# Altium schematic symbol library 68714014522.SchLib: 1 symbol
Pins are listed as number, name and electrical type; pins without a type are passive.

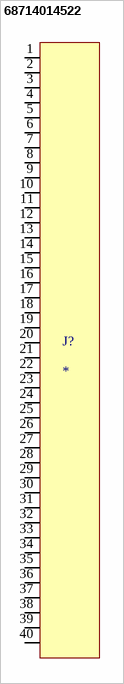
[diagram p0: symbol 68714014522]

## 68714014522
designator J?
40 Position FPC Connector Contacts, Bottom 0.020 (0.50mm) Surface Mount, Right Angle; MP: 68714014522; MF: WÃ¼rth Elektronik; Purchase-URL: https://pricing.snapeda.com/search/part/68714014522/?ref=eda; Price: None; SnapEDA_Link: https://www.snapeda.com/parts/68714014522/Wurth+Elektronik/view-part/?ref=snap; Check_prices: https://www.snapeda.com/parts/68714014522/Wurth+Elektronik/view-part/?ref=eda; Package: None; Availability: In Stock; Value: *
footprint 68714014522
pins: 1, 2, 3, 4, 5, 6, 7, 8, 9, 10, 11, 12, 13, 14, 15, 16, 17, 18, 19, 20, 21, 22, 23, 24, 25, 26, 27, 28, 29, 30, 31, 32, 33, 34, 35, 36, 37, 38, 39, 40